# EAGLE library part LTC3442 (library PowerProducts)
Micropower Synchronous Buck-Boost DC/DC Converter with Automatic Burst Mode Operation
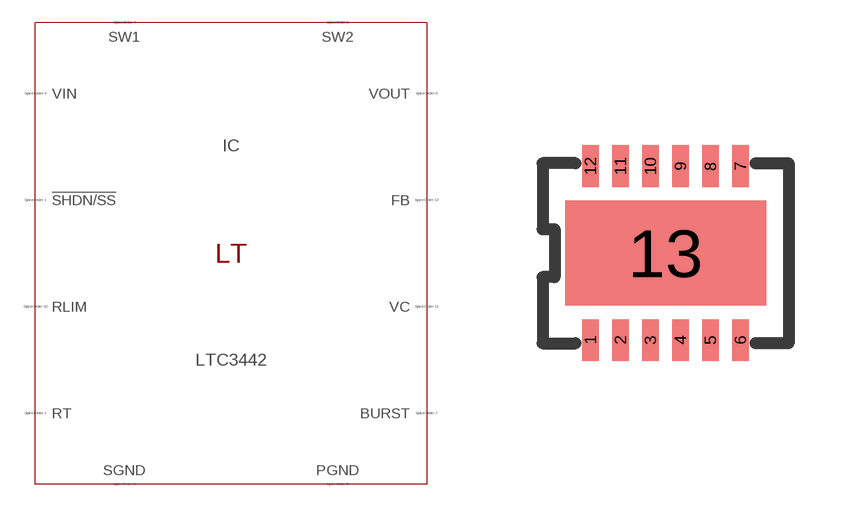
[diagram p187: symbol with the pads of DFN12(DE); footprint DFN12(DE)]

Designator prefix IC

## LTC3442 (SPICEMODEL: LTC3442.sub; SPICEPREFIX: X; VALUE2: LTC3442)  [DFN12(DE)]
1  !SHDN/SS  pas
2  RT  pas
3  SGND  pas
4  SW1  pas
5  PGND  pas
6  SW2  pas
7  BURST  pas
8  VOUT  pas
9  VIN  pas
10  RLIM  pas
11  VC  pas
12  FB  pas
13  PGND  pas

## Footprint DFN12(DE) (pad centres in mm)
Package generated from: DFN12(DE).asc (!PADS-POWERPCB-V5.0-BASIC! DESIGN DATABASE ASCII FILE 1.0) with :import-pads-powerpcb-v5.ulp Version 1.0.1 at 04.10.2012 14:11:16
smd 0.42 x 1.05: 1 -1.875,-2.175; 2 -1.125,-2.175; 3 -0.375,-2.175; 4 0.375,-2.175; 5 1.125,-2.175; 6 1.875,-2.175; 7 1.875,2.175; 8 1.125,2.175; 9 0.375,2.175; 10 -0.375,2.175; 11 -1.125,2.175; 12 -1.875,2.175
smd 5.025 x 2.625: 13 0,0